# Altium footprint library FRONT-UNIT-7INCH.PcbLib: 30 footprints (part 1 of 2)
Each footprint in its own frame and in the unit in brackets; x right, y up, seen from the top. Pads: shape width x height; smd on the part's side, far side on the other; paste and mask are expansions set on the pad; w line width, h text height; cw(c..) or ccw(c..) is an arc to the next point about the centre after c.
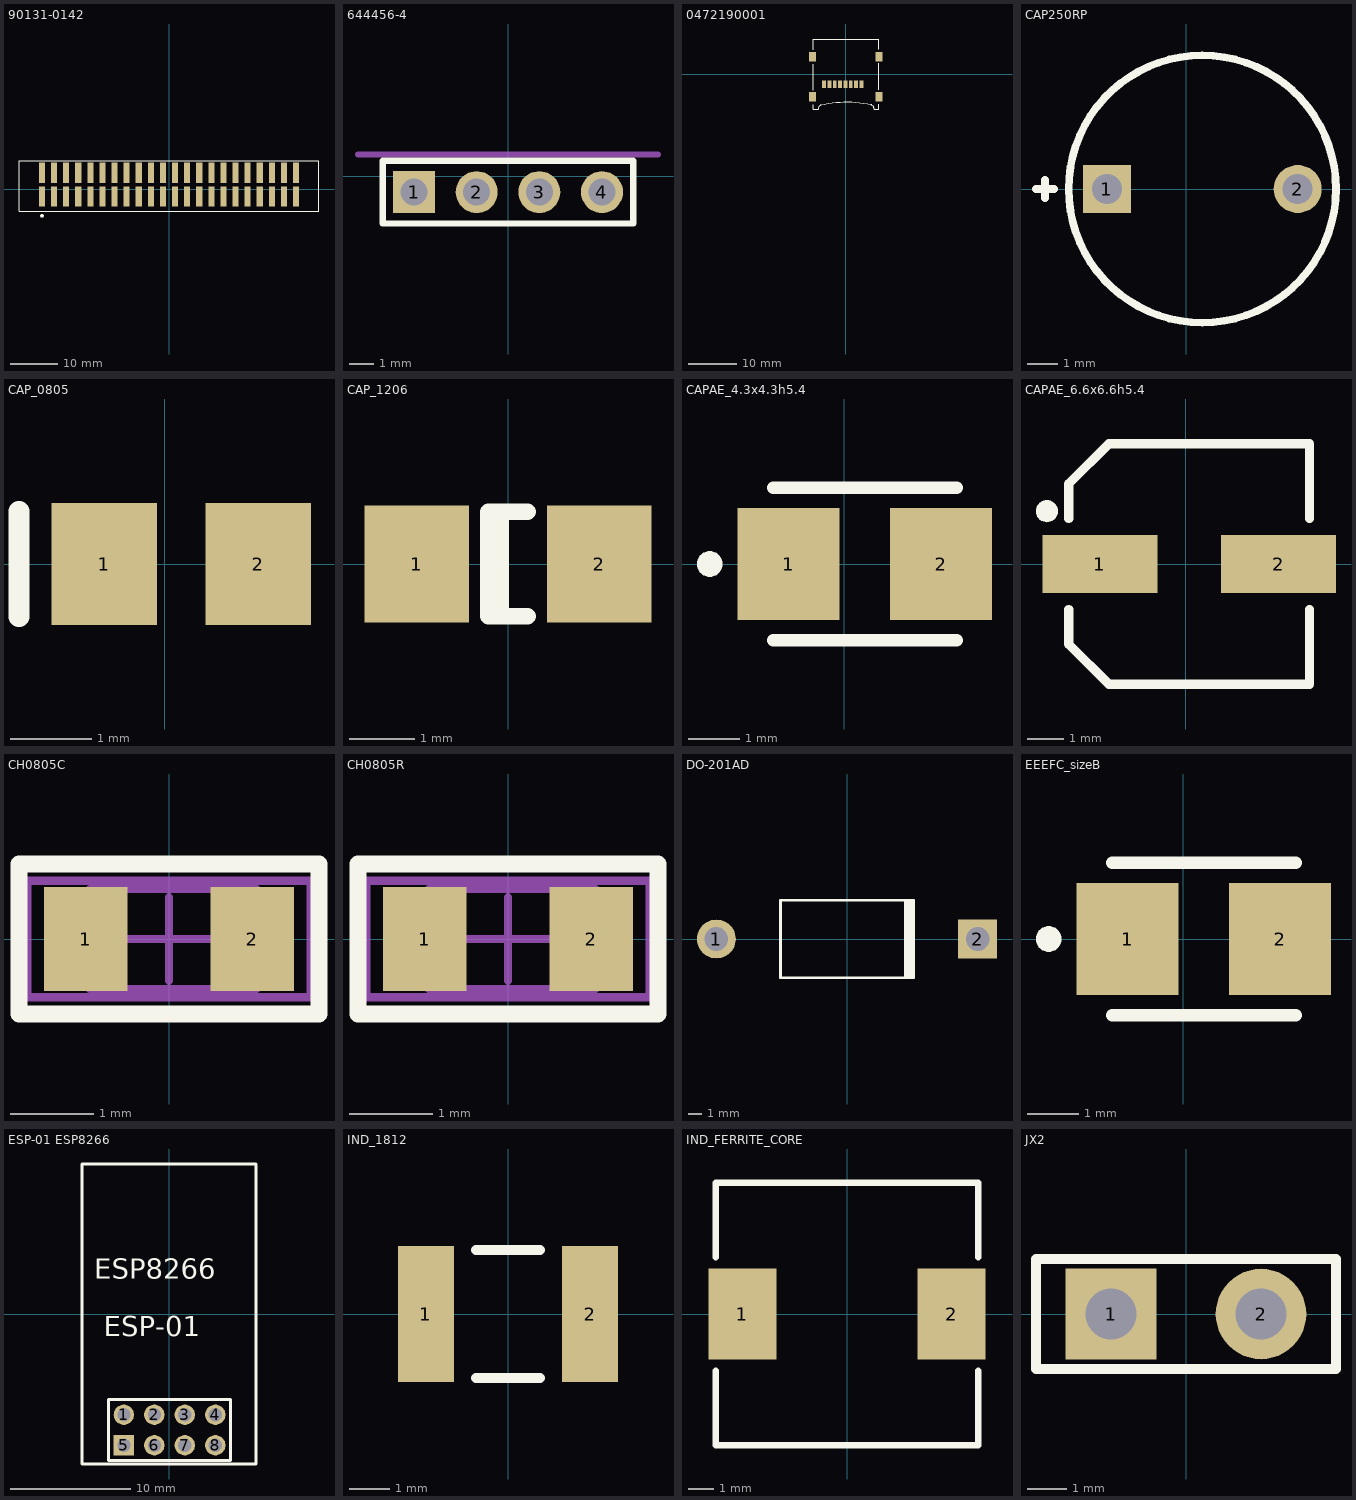
[diagram p0: the footprints below, top view; thin cyan lines are the x and y axes]

## 90131-0142 [mm]
pads (44):
  rect 1.27x4.24 smd: 1(-26.67,-1.582) 2(-26.67,3.427) 3(-24.13,-1.582) 4(-24.13,3.427) 5(-21.59,-1.582) 6(-21.59,3.427) 7(-19.05,-1.582) 8(-19.05,3.427) 9(-16.51,-1.582) 10(-16.51,3.427) 11(-13.97,-1.582) 12(-13.97,3.427) 13(-11.43,-1.582) 14(-11.43,3.427) 15(-8.89,-1.582) 16(-8.89,3.427) 17(-6.35,-1.582) 18(-6.35,3.427) 19(-3.81,-1.582) 20(-3.81,3.427) 21(-1.27,-1.582) 22(-1.27,3.427) 23(1.27,-1.582) 24(1.27,3.427) 25(3.81,-1.582) 26(3.81,3.427) 27(6.35,-1.582) 28(6.35,3.427) 29(8.89,-1.582) 30(8.89,3.427) 31(11.43,-1.582) 32(11.43,3.427) 33(13.97,-1.582) 34(13.97,3.427) 35(16.51,-1.582) 36(16.51,3.427) 37(19.05,-1.582) 38(19.05,3.427) 39(21.59,-1.582) 40(21.59,3.427) 41(24.13,-1.582) 42(24.13,3.427) 43(26.67,-1.582) 44(26.67,3.427)
Top Overlay:
  region: -26.324,-5.627 -26.329,-5.566 -26.345,-5.507 -26.37,-5.452 -26.405,-5.402 -26.448,-5.359 -26.498,-5.324 -26.554,-5.298 -26.612,-5.282 -26.673,-5.277 -26.734,-5.282 -26.793,-5.298 -26.848,-5.324 -26.898,-5.359 -26.941,-5.402 -26.976,-5.452 -27.002,-5.507 -27.017,-5.566 -27.023,-5.627 -27.017,-5.688 -27.002,-5.747 -26.976,-5.802 -26.941,-5.852 -26.898,-5.896 -26.848,-5.931 -26.793,-5.956 -26.734,-5.972 -26.673,-5.977 -26.612,-5.972 -26.554,-5.956 -26.498,-5.931 -26.448,-5.896 -26.405,-5.852 -26.37,-5.802 -26.345,-5.747 -26.329,-5.688
  lines w0.254: -31.495,-4.692 31.495,-4.692 31.495,5.977 -31.495,5.977 -31.495,-4.692

## 644456-4 [mm]
pads (4):
  rect 1.7x1.7 hole 1.1: 1(-3.81,-0.635)
  round 1.7 hole 1.1: 2(-1.27,-0.635) 3(1.27,-0.635) 4(3.81,-0.635)
Top Overlay:
  lines w0.254: -5.08,-1.905 5.08,-1.905 5.08,0.635 -5.08,0.635 -5.08,-1.905
Mechanical 1:
  lines w0.254: -6.08,0.885 6.08,0.885
  text "BOARD EDGE" at -2.207,1.001 h0.42

## 0472190001 [mm]
pads (12):
  rect 0.8x1.5 smd: 1(3.205,-2.1) 2(2.105,-2.1) 3(1.005,-2.1) 4(-0.095,-2.1) 5(-1.195,-2.1) 6(-2.295,-2.1) 7(-3.395,-2.1) 8(-4.495,-2.1)
  rect 1.45x2 smd: 9(-6.875,3.6) 10(-6.875,-4.7) 11(6.875,-4.7) 12(6.875,3.6)
Top Overlay:
  lines w0.254: -6.794,-6.351 -6.794,-7.25 -5.746,-7.25 ; -6.794,-3.306 -6.794,2.044 ; -6.794,5.002 -6.794,7.25 6.794,7.25 6.794,5.148 ; -5.745,-7.242 cw(c-4.78,-7.326) -5.205,-6.456 ; -5.27,-6.469 cw(c0.233,-30.308) 5.32,-6.377 ; 5.204,-6.353 cw(c4.892,-7.261) 5.852,-7.244 ; 5.852,-7.25 6.794,-7.25 6.794,-6.249 ; 6.794,-3.248 6.794,2.204

## CAP250RP [mm]
pads (2):
  rect 1.6x1.6 hole 1: 1(-2.631,0)
  round 1.6 hole 1: 2(3.719,0)
Top Overlay:
  circle w0.254: c0.544,0 r4.45
  lines w0.254: -4.994,0 -4.394,0 ; -4.694,-0.3 -4.694,0.3

## CAP_0805 [mm]
pads (2):
  rect 1.3x1.5 smd: 1(-0.75,0) 2(1.15,0)
Top Overlay:
  lines w0.254: -1.8,-0.65 -1.8,0.65

## CAP_1206 [mm]
pads (2):
  rect 1.6x1.8 smd: 1(-1.4,0) 2(1.4,0)
Top Overlay:
  lines w0.254: -0.11,-0.799 -0.11,0.799 ; 0.299,-0.799 -0.299,-0.799 -0.299,0.799 0.299,0.799

## CAPAE_4.3x4.3h5.4 [mm]
pads (2):
  rect 2x2.2 smd: 1(-1.1,0) 2(1.9,0)
Top Overlay:
  region: -2.4,0 -2.404,0.043 -2.415,0.085 -2.434,0.125 -2.458,0.161 -2.489,0.191 -2.525,0.216 -2.565,0.235 -2.607,0.246 -2.65,0.25 -2.693,0.246 -2.736,0.235 -2.775,0.216 -2.811,0.191 -2.842,0.161 -2.866,0.125 -2.885,0.085 -2.896,0.043 -2.9,0 -2.896,-0.043 -2.885,-0.085 -2.866,-0.125 -2.842,-0.161 -2.811,-0.191 -2.775,-0.216 -2.736,-0.235 -2.693,-0.246 -2.65,-0.25 -2.607,-0.246 -2.565,-0.235 -2.525,-0.216 -2.489,-0.191 -2.458,-0.161 -2.434,-0.125 -2.415,-0.085 -2.404,-0.043
  lines w0.254: -1.4,-1.5 2.2,-1.5 ; -1.4,1.5 2.2,1.5

## CAPAE_6.6x6.6h5.4 [mm]
pads (2):
  rect 3.15x1.6 smd: 1(-2.362,0) 2(2.538,0)
Top Overlay:
  region: -3.513,1.45 -3.518,1.502 -3.531,1.552 -3.553,1.6 -3.583,1.643 -3.62,1.679 -3.663,1.709 -3.71,1.732 -3.761,1.745 -3.813,1.75 -3.865,1.745 -3.915,1.732 -3.963,1.709 -4.005,1.679 -4.042,1.643 -4.072,1.6 -4.094,1.552 -4.108,1.502 -4.112,1.45 -4.108,1.398 -4.094,1.347 -4.072,1.3 -4.042,1.257 -4.005,1.22 -3.963,1.19 -3.915,1.168 -3.865,1.154 -3.813,1.15 -3.761,1.154 -3.71,1.168 -3.663,1.19 -3.62,1.22 -3.583,1.257 -3.553,1.3 -3.531,1.347 -3.518,1.398
  lines w0.254: -3.212,-1.25 -3.212,-2.2 -2.112,-3.3 3.387,-3.3 3.388,-1.25 ; -3.212,1.25 -3.212,2.2 -2.112,3.3 3.387,3.3 3.388,1.25

## CH0805C [mm] "Chip Capacitor, 2-Leads, Body 2,00x1,20mm, IPC Medium Density"
height 0.45
pads (2):
  rect 1x1.25 smd: 1(-1,0) 2(1,0)
Top Overlay:
  lines w0.2: -1.8,-0.9 -1.8,0.9 1.8,0.9 1.8,-0.9 -1.8,-0.9
Mechanical 1:
  lines w0.1: -0.949,-0.6 -0.949,0.6 1.05,0.6 1.05,-0.6 -0.949,-0.6
Mechanical 15:
  lines w0.1: -0.5,0 0.5,0 ; 0,-0.5 0,0.5 ; -1.7,-0.7 1.7,-0.7 1.7,0.7 -1.7,0.7 -1.7,-0.7
3D body "SW3dPS-0805 SMD Capacitor.STEP": height 0.78, standoff 0, extent -1,-0.625 1,0.625

## CH0805R [mm]
height 0.45
pads (2):
  rect 1x1.25 smd: 1(-1,0) 2(1,0)
Top Overlay:
  lines w0.2: -1.8,-0.9 -1.8,0.9 1.8,0.9 1.8,-0.9 -1.8,-0.9
Mechanical 1:
  lines w0.1: -0.949,-0.6 -0.949,0.6 1.05,0.6 1.05,-0.6 -0.949,-0.6
Mechanical 15:
  lines w0.1: -0.5,0 0.5,0 ; 0,-0.5 0,0.5 ; -1.7,-0.7 1.7,-0.7 1.7,0.7 -1.7,0.7 -1.7,-0.7
3D body "chip_0805_r.STEP": height 0.44, standoff -0.02, extent -1,-0.6 1,0.6

## DO-201AD [mm] "Diode, Axial; Body 9.5 x 5.6 mm (LxDia. max), Lead Dia. 1.32 mm (max)"
height 5.6
pads (2):
  round 2.8 hole 1.7: 1(-9.42,0)
  rect 2.8x2.8 hole 1.7: 2(9.42,0)
Top Overlay:
  rectangle: 4.1,-2.8 4.9,2.8
  lines w0.2: 4.8,-2.8 -4.8,-2.8 -4.8,2.8 4.8,2.8

## EEEFC_sizeB [mm]
pads (2):
  rect 2x2.2 smd: 1(-1.1,0) 2(1.9,0)
Top Overlay:
  region: -2.4,0 -2.404,0.043 -2.415,0.085 -2.434,0.125 -2.458,0.161 -2.489,0.191 -2.525,0.216 -2.565,0.235 -2.607,0.246 -2.65,0.25 -2.693,0.246 -2.736,0.235 -2.775,0.216 -2.811,0.191 -2.842,0.161 -2.866,0.125 -2.885,0.085 -2.896,0.043 -2.9,0 -2.896,-0.043 -2.885,-0.085 -2.866,-0.125 -2.842,-0.161 -2.811,-0.191 -2.775,-0.216 -2.736,-0.235 -2.693,-0.246 -2.65,-0.25 -2.607,-0.246 -2.565,-0.235 -2.525,-0.216 -2.489,-0.191 -2.458,-0.161 -2.434,-0.125 -2.415,-0.085 -2.404,-0.043
  lines w0.254: -1.4,-1.5 2.2,-1.5 ; -1.4,1.5 2.2,1.5

## ESP-01 ESP8266 [mm]
pads (8):
  round 1.7 hole 1.1: 1(-3.76,-8.4) 2(-1.22,-8.4) 3(1.32,-8.4) 4(3.86,-8.4) 6(-1.22,-10.94) 7(1.32,-10.94) 8(3.86,-10.94)
  rect 1.7x1.7 hole 1.1: 5(-3.76,-10.94)
Top Overlay:
  lines w0.254: -7.25,-12.5 7.25,-12.5 7.25,12.5 -7.25,12.5 -7.25,-12.5 ; -5.03,-12.21 5.13,-12.21 5.13,-7.13 -5.03,-7.13 -5.03,-12.21
  text "ESP8266" at -6.213,2.926 h1.67
  text "ESP-01" at -5.441,-1.854 h1.67

## IND_1812 [mm]
pads (2):
  rect 1.4x3.4 smd: 1(-2.05,0) 2(2.05,0)
Top Overlay:
  lines w0.254: -0.8,-1.6 0.8,-1.6 ; -0.8,1.6 0.8,1.6

## IND_FERRITE_CORE [mm]
pads (2):
  rect 2.7x3.6 smd: 1(-4.15,0) 2(4.15,0)
Top Overlay:
  lines w0.254: -5.2,-2.25 -5.2,-5.2 5.2,-5.2 5.2,-2.25 ; -5.2,2.25 -5.2,5.2 5.2,5.2 5.2,2.25

## JX2 [mm]
pads (2):
  rect 2.3x2.3 hole 1.3: 1(-1.905,0)
  round 2.3 hole 1.3: 2(1.905,0)
Top Overlay:
  lines w0.254: -3.81,-1.4 3.81,-1.4 3.81,1.4 -3.81,1.4 -3.81,-1.4